# EAGLE library part ARDUINO_PRO_MINI (library board)
Chinese version of the Arduino Mini Pro Link to eBay item <http://www.ebay.it/itm/131053554958>
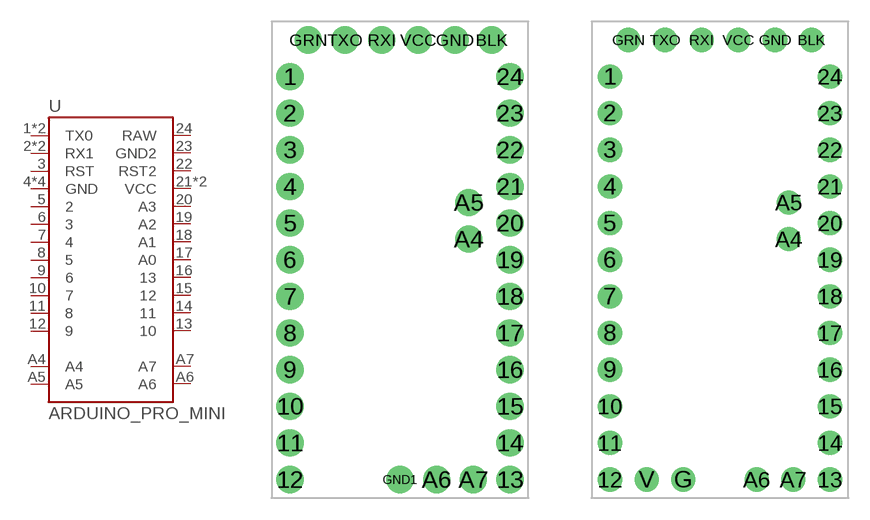
[diagram p0: symbol with the pads of PRO_MINI_1; footprints PRO_MINI_1, PRO_MINI_2]

Designator prefix -

## ARDUINO_PRO_MINIG&C  [PRO_MINI_1]
1  TX0
2  RX1
3  RST
4  GND
5  2
6  3
7  4
8  5
9  6
10  7
11  8
12  9
13  10
14  11
15  12
16  13
17  A0
18  A1
19  A2
20  A3
21  VCC
22  RST2
23  GND2
24  RAW
A4  A4
A5  A5
A6  A6
A7  A7
BLK  GND
GND  GND
GND1  GND
RXI  RX1
TXO  TX0
VCC  VCC

## ARDUINO_PRO_MINICZB  [PRO_MINI_2]
1  TX0
2  RX1
3  RST
4  GND
5  2
6  3
7  4
8  5
9  6
10  7
11  8
12  9
13  10
14  11
15  12
16  13
17  A0
18  A1
19  A2
20  A3
21  VCC
22  RST2
23  GND2
24  RAW
A4  A4
A5  A5
A6  A6
A7  A7
BLK  GND
G  GND
GND  GND
RXI  RX1
TXO  TX0
V  VCC
VCC  VCC

## Footprint PRO_MINI_1 (pad centres in mm)
drill 1.016 pad 1.88: 1 -7.62,12.7; 2 -7.62,10.16; 3 -7.62,7.62; 4 -7.62,5.08; 5 -7.62,2.54; 6 -7.62,0; 7 -7.62,-2.54; 8 -7.62,-5.08; 9 -7.62,-7.62; 10 -7.62,-10.16; 11 -7.62,-12.7; 12 -7.62,-15.24; 13 7.62,-15.24; 14 7.62,-12.7; 15 7.62,-10.16; 16 7.62,-7.62; 17 7.62,-5.08; 18 7.62,-2.54; 19 7.62,0; 20 7.62,2.54; 21 7.62,5.08; 22 7.62,7.62; 23 7.62,10.16; 24 7.62,12.7; A4 4.763,1.429; A5 4.763,3.969; A6 2.54,-15.24; A7 5.08,-15.24; BLK 6.35,15.24; GND 3.81,15.24; GND1 0,-15.24; GRN -6.35,15.24; RXI -1.27,15.24; TXO -3.81,15.24; VCC 1.27,15.24

## Footprint PRO_MINI_2 (pad centres in mm)
drill 1.016 pad 1.676: 1 -7.62,12.7; 2 -7.62,10.16; 3 -7.62,7.62; 4 -7.62,5.08; 5 -7.62,2.54; 6 -7.62,0; 7 -7.62,-2.54; 8 -7.62,-5.08; 9 -7.62,-7.62; 10 -7.62,-10.16; 11 -7.62,-12.7; 12 -7.62,-15.24; 13 7.62,-15.24; 14 7.62,-12.7; 15 7.62,-10.16; 16 7.62,-7.62; 17 7.62,-5.08; 18 7.62,-2.54; 19 7.62,0; 20 7.62,2.54; 21 7.62,5.08; 22 7.62,7.62; 23 7.62,10.16; 24 7.62,12.7; A4 4.763,1.429; A5 4.763,3.969; A6 2.54,-15.24; A7 5.08,-15.24; BLK 6.35,15.24; G -2.54,-15.24; GND 3.81,15.24; GRN -6.35,15.24; RXI -1.27,15.24; TXO -3.81,15.24; V -5.08,-15.24; VCC 1.27,15.24